# EAGLE library part M34507(24PIN) (library renesas_mcu)
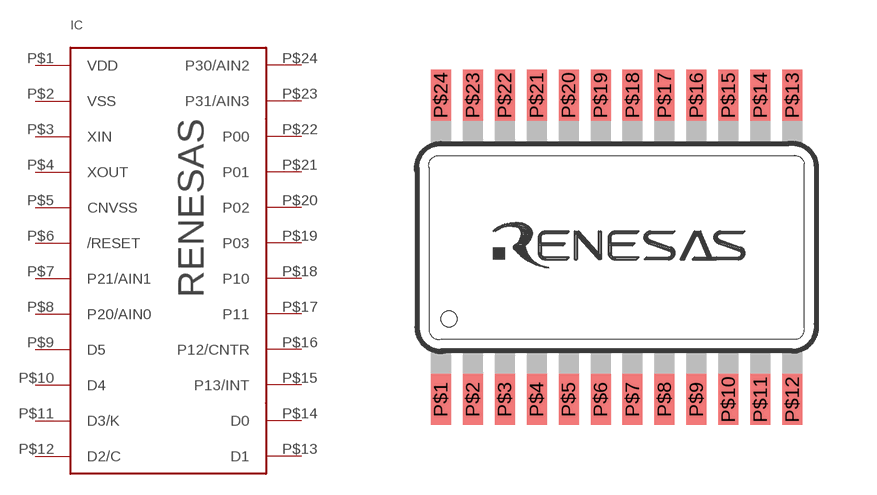
[diagram p46: symbol with the pads of 24P2Q-A; footprint 24P2Q-A]

Designator prefix IC

## M34507(24PIN)  [24P2Q-A]
P$1  VDD  pwr
P$2  VSS  pwr
P$3  XIN  in
P$4  XOUT  out
P$5  CNVSS
P$6  /RESET
P$7  P21/AIN1
P$8  P20/AIN0
P$9  D5
P$10  D4
P$11  D3/K
P$12  D2/C
P$13  D1
P$14  D0
P$15  P13/INT
P$16  P12/CNTR
P$17  P11
P$18  P10
P$19  P03
P$20  P02
P$21  P01
P$22  P00
P$23  P31/AIN3
P$24  P30/AIN2

## Footprint 24P2Q-A (pad centres in mm)
smd 0.5 x 1.27: P$1 -4.4,-3.81; P$2 -3.6,-3.81; P$3 -2.8,-3.81; P$4 -2,-3.81; P$5 -1.2,-3.81; P$6 -0.4,-3.81; P$7 0.4,-3.81; P$8 1.2,-3.81; P$9 2,-3.81; P$10 2.8,-3.81; P$11 3.6,-3.81; P$12 4.4,-3.81; P$13 4.4,3.81; P$14 3.6,3.81; P$15 2.8,3.81; P$16 2,3.81; P$17 1.2,3.81; P$18 0.4,3.81; P$19 -0.4,3.81; P$20 -1.2,3.81; P$21 -2,3.81; P$22 -2.8,3.81; P$23 -3.6,3.81; P$24 -4.4,3.81